# Altium footprint library Main Board.PcbLib: 34 footprints (part 2 of 3)
Each footprint in its own frame and in the unit in brackets; x right, y up, seen from the top. Pads: shape width x height; smd on the part's side, far side on the other; paste and mask are expansions set on the pad; w line width, h text height; cw(c..) or ccw(c..) is an arc to the next point about the centre after c.
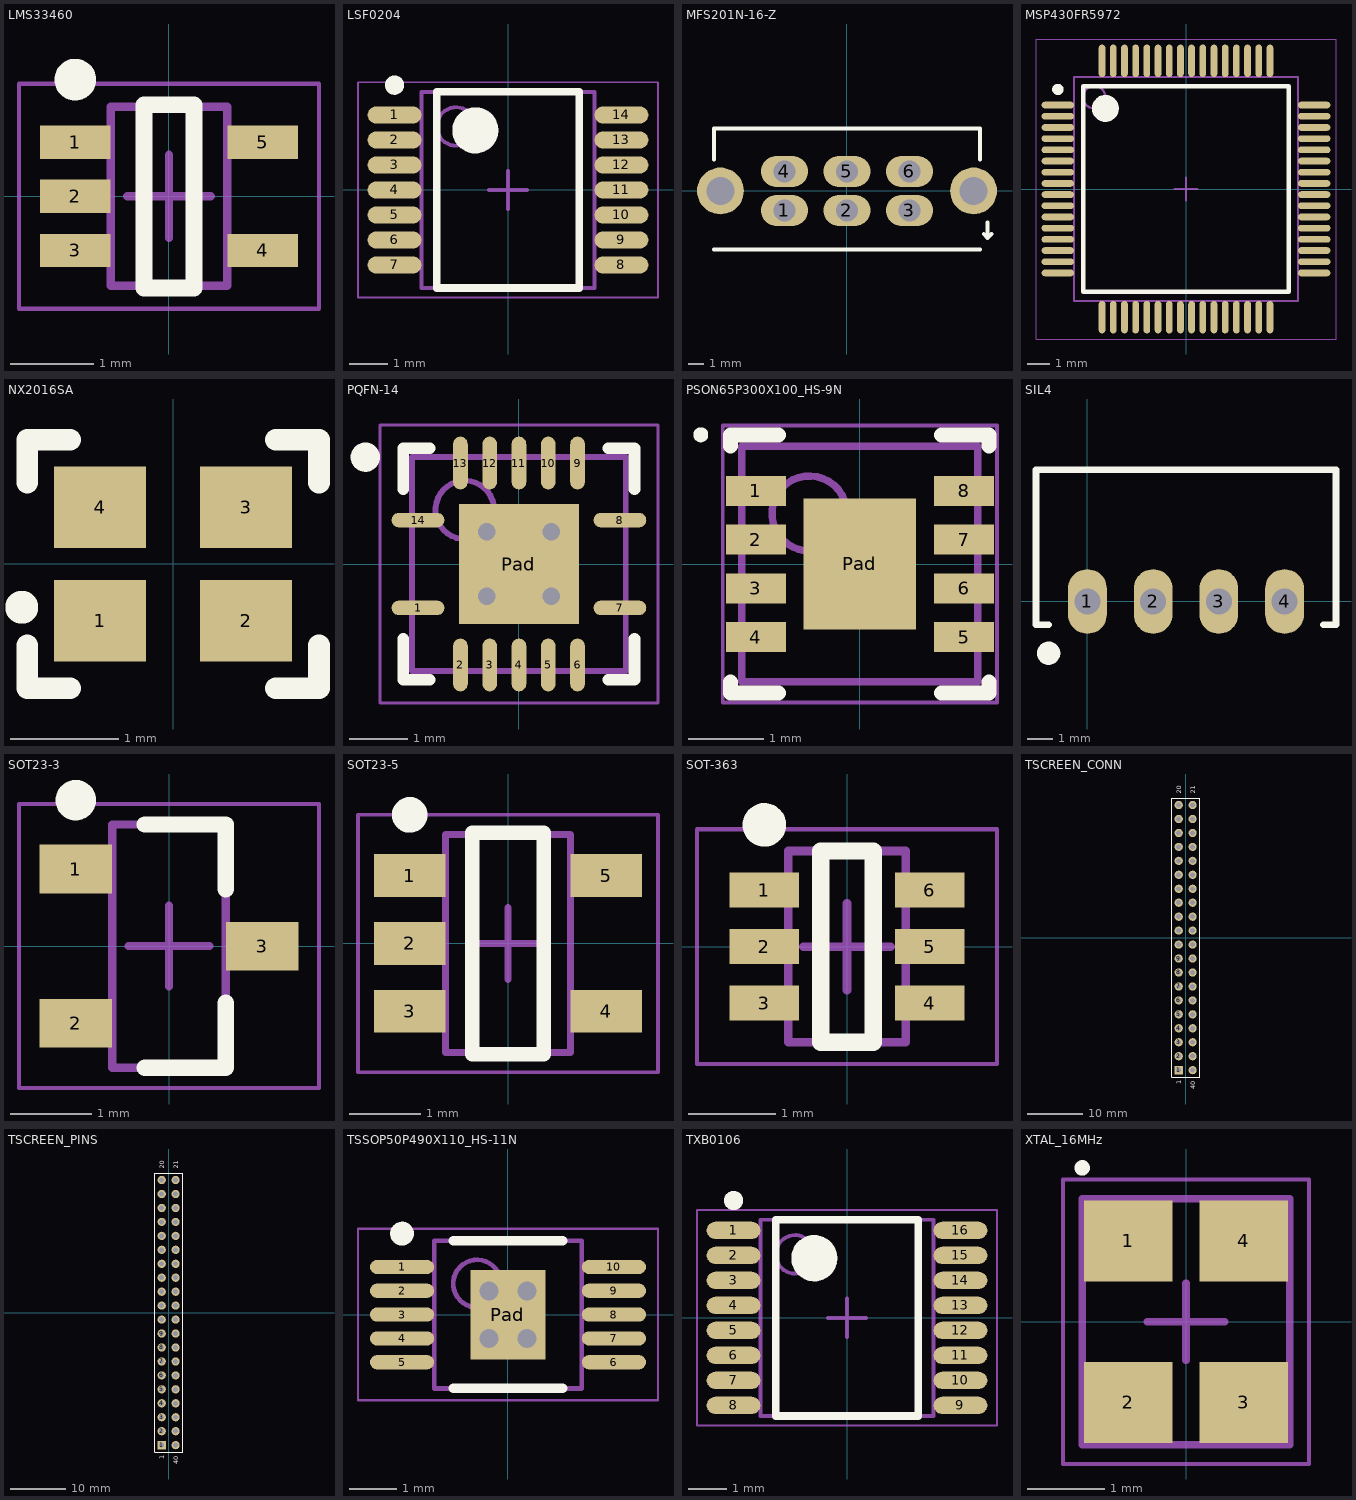
[diagram p1: the footprints below, top view; thin cyan lines are the x and y axes]

## LMS33460 [mm] "SOT23, 5-Leads, Body 2,00x2,10mm, Pitch 0,65mm, IPC Medium Density"
height 1.1
pads (5):
  rect 0.85x0.4 smd mask+0.06: 1(-1.125,0.65) 2(-1.125,0) 3(-1.125,-0.65) 4(1.125,-0.65) 5(1.125,0.65)
Top Overlay:
  circle w0.25: c-1.125,1.4 r0.125
  lines w0.2: -0.3,-1.1 -0.3,1.1 0.3,1.1 0.3,-1.1 -0.3,-1.1
Mechanical 13:
  lines w0.1: -0.7,-1.075 0.7,-1.075 0.7,1.075 -0.7,1.075 -0.7,-1.075
Mechanical 15:
  lines w0.05: -1.8,-1.35 1.8,-1.35 1.8,1.35 -1.8,1.35 -1.8,-1.35
  lines w0.1: -0.5,0 0.5,0 ; 0,-0.5 0,0.5
3D body: height 1.1, standoff 0, extent -0.7,-1.075 0.7,1.075

## LSF0204 [mm] "TSOP, 14-Leads, Body 5,00x4,40mm, Pitch 0,65mm, IPC Medium Density"
height 0.15
pads (14):
  oval 1.4x0.45 smd: 1(-2.95,1.95) 2(-2.95,1.3) 3(-2.95,0.65) 4(-2.95,0) 5(-2.95,-0.65) 6(-2.95,-1.3) 7(-2.95,-1.95) 8(2.95,-1.95) 9(2.95,-1.3) 10(2.95,-0.65) 11(2.95,0) 12(2.95,0.65) 13(2.95,1.3) 14(2.95,1.95)
Top Overlay:
  circle w0.6: c-0.85,1.55 r0.3
  circle w0.25: c-2.95,2.725 r0.125
  lines w0.2: -1.85,-2.55 1.85,-2.55 1.85,2.55 -1.85,2.55 -1.85,-2.55
Mechanical 13:
  circle w0.1: c-1.35,1.65 r0.5
  lines w0.1: -2.25,-2.55 2.25,-2.55 2.25,2.55 -2.25,2.55 -2.25,-2.55
Mechanical 15:
  lines w0.05: -3.9,-2.8 3.9,-2.8 3.9,2.8 -3.9,2.8 -3.9,-2.8
  lines w0.1: -0.5,0 0.5,0 ; 0,-0.5 0,0.5
3D body: height 0.15, standoff 0.1, extent -2.25,-2.55 2.25,2.55

## MFS201N-16-Z [mm] "DPDT Switch 30V 1A"
pads (8):
  oval 3x2 hole 1.4: 1(-4,-1.25) 2(0,-1.25) 3(4,-1.25) 4(-4,1.25) 5(0,1.25) 6(4,1.25)
  round 3 hole 1.8: ""(-8.1,0) ""(8.1,0)
Top Overlay:
  lines w0.25: -8.5,-3.75 8.5,-3.75 ; -8.5,2 -8.5,4 8.5,4 8.5,2 ; 8.75,-2.75 9,-3 ; 9,-2 9,-3 ; 9.25,-2.75 9,-3
3D body: height 7, standoff 3, extent -4,-10.85 4,-3.75
3D body: height 0, standoff -3, extent -4.5,-1.5 -3.5,-1
3D body: height 0, standoff -3, extent -0.5,-1.5 0.5,-1
3D body: height 0, standoff -3, extent 3.5,-1.5 4.5,-1
3D body: height 0, standoff -3, extent 3.5,1 4.5,1.5
3D body: height 0, standoff -3, extent -0.5,1 0.5,1.5
3D body: height 0, standoff -3, extent -4.5,1 -3.5,1.5
3D body: height 9, standoff 0, extent -8.4,-3.75 8.4,3.75
3D body: height 0, standoff -3, extent -8.35,-0.75 -7.85,0.75
3D body: height 0, standoff -3, extent 7.85,-0.75 8.35,0.75

## MSP430FR5972 [mm] "TSQFP, 64-Leads, Body 10,00x10,00mm, Pitch 0,50mm, IPC Medium Density"
height 1.6
pads (64):
  oval 1.45x0.3 smd: 1(-5.725,3.75) 2(-5.725,3.25) 3(-5.725,2.75) 4(-5.725,2.25) 5(-5.725,1.75) 6(-5.725,1.25) 7(-5.725,0.75) 8(-5.725,0.25) 9(-5.725,-0.25) 10(-5.725,-0.75) 11(-5.725,-1.25) 12(-5.725,-1.75) 13(-5.725,-2.25) 14(-5.725,-2.75) 15(-5.725,-3.25) 16(-5.725,-3.75) 33(5.725,-3.75) 34(5.725,-3.25) 35(5.725,-2.75) 36(5.725,-2.25) 37(5.725,-1.75) 38(5.725,-1.25) 39(5.725,-0.75) 40(5.725,-0.25) 41(5.725,0.25) 42(5.725,0.75) 43(5.725,1.25) 44(5.725,1.75) 45(5.725,2.25) 46(5.725,2.75) 47(5.725,3.25) 48(5.725,3.75)
  oval 0.3x1.45 smd: 17(-3.75,-5.725) 18(-3.25,-5.725) 19(-2.75,-5.725) 20(-2.25,-5.725) 21(-1.75,-5.725) 22(-1.25,-5.725) 23(-0.75,-5.725) 24(-0.25,-5.725) 25(0.25,-5.725) 26(0.75,-5.725) 27(1.25,-5.725) 28(1.75,-5.725) 29(2.25,-5.725) 30(2.75,-5.725) 31(3.25,-5.725) 32(3.75,-5.725) 49(3.75,5.725) 50(3.25,5.725) 51(2.75,5.725) 52(2.25,5.725) 53(1.75,5.725) 54(1.25,5.725) 55(0.75,5.725) 56(0.25,5.725) 57(-0.25,5.725) 58(-0.75,5.725) 59(-1.25,5.725) 60(-1.75,5.725) 61(-2.25,5.725) 62(-2.75,5.725) 63(-3.25,5.725) 64(-3.75,5.725)
Top Overlay:
  circle w0.6: c-3.6,3.6 r0.3
  circle w0.25: c-5.725,4.45 r0.125
  lines w0.2: -4.6,-4.6 4.6,-4.6 4.6,4.6 -4.6,4.6 -4.6,-4.6
Mechanical 13:
  circle w0.1: c-4.1,4.1 r0.5
  lines w0.1: -5,-5 5,-5 5,5 -5,5 -5,-5
Mechanical 15:
  lines w0.05: -6.7,-6.7 6.7,-6.7 6.7,6.7 -6.7,6.7 -6.7,-6.7
  lines w0.1: -0.5,0 0.5,0 ; 0,-0.5 0,0.5
3D body: height 1.6, standoff 0.25, extent -5,-5 5,5

## NX2016SA [mm]
height 0.5
pads (4):
  rect 0.85x0.75 smd: 1(-0.675,-0.525) 2(0.675,-0.525) 3(0.675,0.525) 4(-0.675,0.525)
Top Overlay:
  circle w0.254: c-1.4,-0.4 r0.025
  lines w0.2: -1.35,-0.75 -1.35,-1.15 -0.95,-1.15 ; -1.35,0.75 -1.35,1.15 -0.95,1.15 ; 0.95,-1.15 1.35,-1.15 1.35,-0.75 ; 0.95,1.15 1.35,1.15 1.35,0.75
3D body: height 0.3, standoff 0, extent -1,-0.8 1,0.8
3D body: height 0.5, standoff 0.3, extent -0.9,-0.7 0.9,0.7

## PQFN-14 [mm] "QFN, 14-Leads, Body 3,50x3,50mm, Pitch 0,50mm/1,50mm, Thermal Pad 2,05x2,05mm, IPC Medium Density"
height 1
pads (15):
  oval 0.9x0.25 smd mask+0.07: 1(-1.725,-0.75) 7(1.725,-0.75) 8(1.725,0.75) 14(-1.725,0.75)
  oval 0.25x0.9 smd mask+0.07: 2(-1,-1.725) 3(-0.5,-1.725) 4(0,-1.725) 5(0.5,-1.725) 6(1,-1.725) 9(1,1.725) 10(0.5,1.725) 11(0,1.725) 12(-0.5,1.725) 13(-1,1.725)
  rect 2.05x2.05 smd mask+0.07: Pad(0,0)
via 0.55,-0.55 diameter 0.5 hole 0.3
via -0.55,-0.55 diameter 0.5 hole 0.3
via 0.55,0.55 diameter 0.5 hole 0.3
via -0.55,0.55 diameter 0.5 hole 0.3
Top Overlay:
  circle w0.25: c-2.625,1.825 r0.125
  lines w0.2: -1.975,-1.275 -1.975,-1.975 -1.525,-1.975 ; -1.975,1.275 -1.975,1.975 -1.525,1.975 ; 1.525,-1.975 1.975,-1.975 1.975,-1.275 ; 1.525,1.975 1.975,1.975 1.975,1.275
Mechanical 13:
  circle w0.1: c-0.925,0.925 r0.5
  lines w0.1: -1.825,-1.825 1.825,-1.825 1.825,1.825 -1.825,1.825 -1.825,-1.825
Mechanical 15:
  lines w0.05: -2.375,-2.375 2.375,-2.375 2.375,2.375 -2.375,2.375 -2.375,-2.375
  lines w0.1: -0.5,0 0.5,0 ; 0,-0.5 0,0.5
3D body: height 1, standoff 0.05, extent -1.825,-1.825 1.825,1.825

## PSON65P300X100_HS-9N [mm] "PSON, 8-Leads, Body 3,00x3,00mm, Pitch 0,65mm, Thermal Pad 1,75x1,50mm, IPC Medium Density"
height 1
pads (9):
  rect 0.8x0.4 smd: 1(-1.39,0.975) 2(-1.39,0.325) 3(-1.39,-0.325) 4(-1.39,-0.975) 5(1.39,-0.975) 6(1.39,-0.325) 7(1.39,0.325) 8(1.39,0.975)
  rect 1.5x1.75 smd: Pad(0,0)
Top Overlay:
  circle w0.1: c-2.125,1.725 r0.05
  lines w0.2: -1.725,-1.575 -1.725,-1.725 -1.09,-1.725 ; -1.725,1.575 -1.725,1.725 -1.09,1.725 ; 1.09,-1.725 1.725,-1.725 1.725,-1.575 ; 1.09,1.725 1.725,1.725 1.725,1.575
Mechanical 13:
  circle w0.1: c-0.675,0.675 r0.5
  lines w0.1: -1.575,-1.575 1.575,-1.575 1.575,1.575 -1.575,1.575 -1.575,-1.575
Mechanical 15:
  lines w0.05: -1.83,-1.85 1.83,-1.85 1.83,1.85 -1.83,1.85 -1.83,-1.85
  lines w0.1: -0.5,0 0.5,0 ; 0,-0.5 0,0.5
3D body: height 1, standoff 0.05, extent -1.575,-1.575 1.575,1.575

## SIL4 [mm]
pads (4):
  oval 1.5x2.5 hole 1: 1(0,0) 2(2.54,0) 3(5.08,0) 4(7.62,0)
Top Overlay:
  circle w0.5: c-1.5,-2 r0.2
  lines w0.254: -1.49,-0.9 -1.99,-0.9 -1.99,5.1 9.61,5.1 9.61,-0.9 9.11,-0.9

## SOT23-3 [mm] "SOT23, 3-Leads, Body 2,90x2,30mm, Pitch 0,95mm, IPC Medium Density"
height 1.1
pads (3):
  rect 0.9x0.6 smd: 1(-1.15,0.95) 2(-1.15,-0.95) 3(1.15,0)
Top Overlay:
  circle w0.25: c-1.15,1.8 r0.125
  lines w0.2: -0.3,-1.5 0.7,-1.5 0.7,-0.7 ; -0.3,1.5 0.7,1.5 0.7,0.7
Mechanical 13:
  lines w0.1: -0.7,-1.5 -0.7,1.5 0.7,1.5 0.7,-1.5 -0.7,-1.5
Mechanical 15:
  lines w0.05: -1.85,-1.75 -1.85,1.75 1.85,1.75 1.85,-1.75 -1.85,-1.75
  lines w0.1: -0.5,0 0.5,0 ; 0,-0.5 0,0.5
3D body: height 1.1, standoff 0.1, extent -0.7,-1.5 0.7,1.5

## SOT23-5 [mm] "SOT23, 5-Leads, Body 2,90x2,80mm, Pitch 0,95mm, IPC Medium Density"
height 1.45
pads (5):
  rect 1x0.6 smd: 1(-1.375,0.95) 2(-1.375,0) 3(-1.375,-0.95) 4(1.375,-0.95) 5(1.375,0.95)
Top Overlay:
  circle w0.25: c-1.375,1.8 r0.125
  lines w0.2: -0.5,-1.55 0.5,-1.55 0.5,1.55 -0.5,1.55 -0.5,-1.55
Mechanical 13:
  lines w0.1: -0.875,-1.525 -0.875,1.525 0.875,1.525 0.875,-1.525 -0.875,-1.525
Mechanical 15:
  lines w0.05: -2.1,-1.8 -2.1,1.8 2.1,1.8 2.1,-1.8 -2.1,-1.8
  lines w0.1: -0.5,0 0.5,0 ; 0,-0.5 0,0.5
3D body: height 1.45, standoff 0.1, extent -0.875,-1.525 0.875,1.525

## SOT-363 [mm] "SOT23, 6-Leads, Body 2,00x2,10mm, Pitch 0,65mm, IPC Medium Density"
height 1.1
pads (6):
  rect 0.8x0.4 smd: 1(-0.95,0.65) 2(-0.95,0) 3(-0.95,-0.65) 4(0.95,-0.65) 5(0.95,0) 6(0.95,0.65)
Top Overlay:
  circle w0.25: c-0.95,1.4 r0.125
  lines w0.2: -0.3,-1.1 -0.3,1.1 0.3,1.1 0.3,-1.1 -0.3,-1.1
Mechanical 13:
  lines w0.1: -0.675,-1.1 0.675,-1.1 0.675,1.1 -0.675,1.1 -0.675,-1.1
Mechanical 15:
  lines w0.05: -1.725,-1.35 1.725,-1.35 1.725,1.35 -1.725,1.35 -1.725,-1.35
  lines w0.1: -0.5,0 0.5,0 ; 0,-0.5 0,0.5
3D body: height 1.1, standoff 0.1, extent -0.675,-1.1 0.675,1.1

## TSCREEN_CONN [mm]
height 8.5
pads (40):
  rect 1.5x1.5 hole 0.9: 1(-1.27,-24.13)
  round 1.5 hole 0.9: 2(-1.27,-21.59) 3(-1.27,-19.05) 4(-1.27,-16.51) 5(-1.27,-13.97) 6(-1.27,-11.43) 7(-1.27,-8.89) 8(-1.27,-6.35) 9(-1.27,-3.81) 10(-1.27,-1.27) 11(-1.27,1.27) 12(-1.27,3.81) 13(-1.27,6.35) 14(-1.27,8.89) 15(-1.27,11.43) 16(-1.27,13.97) 17(-1.27,16.51) 18(-1.27,19.05) 19(-1.27,21.59) 20(-1.27,24.13) 21(1.27,24.13) 22(1.27,21.59) 23(1.27,19.05) 24(1.27,16.51) 25(1.27,13.97) 26(1.27,11.43) 27(1.27,8.89) 28(1.27,6.35) 29(1.27,3.81) 30(1.27,1.27) 31(1.27,-1.27) 32(1.27,-3.81) 33(1.27,-6.35) 34(1.27,-8.89) 35(1.27,-11.43) 36(1.27,-13.97) 37(1.27,-16.51) 38(1.27,-19.05) 39(1.27,-21.59) 40(1.27,-24.13)
Top Overlay:
  lines w0.2: -2.54,-25.4 -2.54,25.4 2.54,25.4 2.54,-25.4 -2.54,-25.4
  text "40" at 1.778,-27.559 h0.89
  text "1" at -0.762,-26.67 h0.89
  text "20" at -0.762,26.162 h0.89
  text "21" at 1.778,26.162 h0.89
3D body: height 8.5, standoff 0.5, extent -2.54,-25.4 2.54,-22.86
3D body: height 0.5, standoff 0, extent -2.54,-25.4 -1.905,-22.86
3D body: height 0.5, standoff 0, extent 1.905,-25.4 2.54,-22.86
3D body: height 1, standoff 0.5, extent -1.905,-24.765 -0.635,-23.495
3D body: height 1, standoff 0.5, extent 0.635,-24.765 1.905,-23.495
3D body: height 0.5, standoff -3, extent -1.524,-24.384 -1.016,-23.876
3D body: height 0.5, standoff -3, extent 1.016,-24.384 1.524,-23.876
3D body: height 0.5, standoff -3, extent 1.016,-21.844 1.524,-21.336
3D body: height 0.5, standoff -3, extent -1.524,-21.844 -1.016,-21.336
3D body: height 1, standoff 0.5, extent 0.635,-22.225 1.905,-20.955
3D body: height 1, standoff 0.5, extent -1.905,-22.225 -0.635,-20.955
3D body: height 0.5, standoff 0, extent 1.905,-22.86 2.54,-20.32
3D body: height 0.5, standoff 0, extent -2.54,-22.86 -1.905,-20.32
3D body: height 8.5, standoff 0.5, extent -2.54,-22.86 2.54,-20.32
3D body: height 0.5, standoff -3, extent 1.016,-19.304 1.524,-18.796
3D body: height 0.5, standoff -3, extent -1.524,-19.304 -1.016,-18.796
3D body: height 1, standoff 0.5, extent 0.635,-19.685 1.905,-18.415
3D body: height 1, standoff 0.5, extent -1.905,-19.685 -0.635,-18.415
3D body: height 0.5, standoff 0, extent 1.905,-20.32 2.54,-17.78
3D body: height 0.5, standoff 0, extent -2.54,-20.32 -1.905,-17.78
3D body: height 8.5, standoff 0.5, extent -2.54,-20.32 2.54,-17.78
3D body: height 0.5, standoff -3, extent 1.016,-16.764 1.524,-16.256
3D body: height 0.5, standoff -3, extent -1.524,-16.764 -1.016,-16.256
3D body: height 1, standoff 0.5, extent 0.635,-17.145 1.905,-15.875
3D body: height 1, standoff 0.5, extent -1.905,-17.145 -0.635,-15.875
3D body: height 0.5, standoff 0, extent 1.905,-17.78 2.54,-15.24
3D body: height 0.5, standoff 0, extent -2.54,-17.78 -1.905,-15.24
3D body: height 8.5, standoff 0.5, extent -2.54,-17.78 2.54,-15.24
3D body: height 0.5, standoff -3, extent 1.016,-14.224 1.524,-13.716
3D body: height 0.5, standoff -3, extent -1.524,-14.224 -1.016,-13.716
3D body: height 1, standoff 0.5, extent 0.635,-14.605 1.905,-13.335
3D body: height 1, standoff 0.5, extent -1.905,-14.605 -0.635,-13.335
3D body: height 0.5, standoff 0, extent 1.905,-15.24 2.54,-12.7
3D body: height 0.5, standoff 0, extent -2.54,-15.24 -1.905,-12.7
3D body: height 8.5, standoff 0.5, extent -2.54,-15.24 2.54,-12.7
3D body: height 0.5, standoff -3, extent 1.016,-11.684 1.524,-11.176
3D body: height 0.5, standoff -3, extent -1.524,-11.684 -1.016,-11.176
3D body: height 1, standoff 0.5, extent 0.635,-12.065 1.905,-10.795
3D body: height 1, standoff 0.5, extent -1.905,-12.065 -0.635,-10.795
3D body: height 0.5, standoff 0, extent 1.905,-12.7 2.54,-10.16
3D body: height 0.5, standoff 0, extent -2.54,-12.7 -1.905,-10.16
3D body: height 8.5, standoff 0.5, extent -2.54,-12.7 2.54,-10.16
3D body: height 0.5, standoff -3, extent 1.016,-9.144 1.524,-8.636
3D body: height 0.5, standoff -3, extent -1.524,-9.144 -1.016,-8.636
3D body: height 1, standoff 0.5, extent 0.635,-9.525 1.905,-8.255
3D body: height 1, standoff 0.5, extent -1.905,-9.525 -0.635,-8.255
3D body: height 0.5, standoff 0, extent 1.905,-10.16 2.54,-7.62
3D body: height 0.5, standoff 0, extent -2.54,-10.16 -1.905,-7.62
3D body: height 8.5, standoff 0.5, extent -2.54,-10.16 2.54,-7.62
3D body: height 0.5, standoff -3, extent 1.016,-6.604 1.524,-6.096
3D body: height 0.5, standoff -3, extent -1.524,-6.604 -1.016,-6.096
3D body: height 1, standoff 0.5, extent 0.635,-6.985 1.905,-5.715
3D body: height 1, standoff 0.5, extent -1.905,-6.985 -0.635,-5.715
3D body: height 0.5, standoff 0, extent 1.905,-7.62 2.54,-5.08
3D body: height 0.5, standoff 0, extent -2.54,-7.62 -1.905,-5.08
3D body: height 8.5, standoff 0.5, extent -2.54,-7.62 2.54,-5.08
3D body: height 0.5, standoff -3, extent 1.016,-4.064 1.524,-3.556
3D body: height 0.5, standoff -3, extent -1.524,-4.064 -1.016,-3.556
3D body: height 1, standoff 0.5, extent 0.635,-4.445 1.905,-3.175
3D body: height 1, standoff 0.5, extent -1.905,-4.445 -0.635,-3.175
3D body: height 0.5, standoff 0, extent 1.905,-5.08 2.54,-2.54
3D body: height 0.5, standoff 0, extent -2.54,-5.08 -1.905,-2.54
3D body: height 8.5, standoff 0.5, extent -2.54,-5.08 2.54,-2.54
3D body: height 0.5, standoff -3, extent 1.016,-1.524 1.524,-1.016
3D body: height 0.5, standoff -3, extent -1.524,-1.524 -1.016,-1.016
3D body: height 1, standoff 0.5, extent 0.635,-1.905 1.905,-0.635
3D body: height 1, standoff 0.5, extent -1.905,-1.905 -0.635,-0.635
3D body: height 0.5, standoff 0, extent 1.905,-2.54 2.54,0
3D body: height 0.5, standoff 0, extent -2.54,-2.54 -1.905,0
3D body: height 8.5, standoff 0.5, extent -2.54,-2.54 2.54,0
3D body: height 0.5, standoff -3, extent 1.016,1.016 1.524,1.524
3D body: height 0.5, standoff -3, extent -1.524,1.016 -1.016,1.524
3D body: height 1, standoff 0.5, extent 0.635,0.635 1.905,1.905
3D body: height 1, standoff 0.5, extent -1.905,0.635 -0.635,1.905
3D body: height 0.5, standoff 0, extent 1.905,0 2.54,2.54
3D body: height 0.5, standoff 0, extent -2.54,0 -1.905,2.54
3D body: height 8.5, standoff 0.5, extent -2.54,0 2.54,2.54
3D body: height 0.5, standoff -3, extent 1.016,3.556 1.524,4.064
3D body: height 0.5, standoff -3, extent -1.524,3.556 -1.016,4.064
3D body: height 1, standoff 0.5, extent 0.635,3.175 1.905,4.445
3D body: height 1, standoff 0.5, extent -1.905,3.175 -0.635,4.445
3D body: height 0.5, standoff 0, extent 1.905,2.54 2.54,5.08
3D body: height 0.5, standoff 0, extent -2.54,2.54 -1.905,5.08
3D body: height 8.5, standoff 0.5, extent -2.54,2.54 2.54,5.08
3D body: height 0.5, standoff -3, extent 1.016,6.096 1.524,6.604
3D body: height 0.5, standoff -3, extent -1.524,6.096 -1.016,6.604
3D body: height 1, standoff 0.5, extent 0.635,5.715 1.905,6.985
3D body: height 1, standoff 0.5, extent -1.905,5.715 -0.635,6.985
3D body: height 0.5, standoff 0, extent 1.905,5.08 2.54,7.62
3D body: height 0.5, standoff 0, extent -2.54,5.08 -1.905,7.62
3D body: height 8.5, standoff 0.5, extent -2.54,5.08 2.54,7.62
3D body: height 0.5, standoff -3, extent 1.016,8.636 1.524,9.144
3D body: height 0.5, standoff -3, extent -1.524,8.636 -1.016,9.144
3D body: height 1, standoff 0.5, extent 0.635,8.255 1.905,9.525
3D body: height 1, standoff 0.5, extent -1.905,8.255 -0.635,9.525
3D body: height 0.5, standoff 0, extent 1.905,7.62 2.54,10.16
3D body: height 0.5, standoff 0, extent -2.54,7.62 -1.905,10.16
3D body: height 8.5, standoff 0.5, extent -2.54,7.62 2.54,10.16
3D body: height 0.5, standoff -3, extent 1.016,11.176 1.524,11.684
3D body: height 0.5, standoff -3, extent -1.524,11.176 -1.016,11.684
3D body: height 1, standoff 0.5, extent 0.635,10.795 1.905,12.065
3D body: height 1, standoff 0.5, extent -1.905,10.795 -0.635,12.065
3D body: height 0.5, standoff 0, extent 1.905,10.16 2.54,12.7
3D body: height 0.5, standoff 0, extent -2.54,10.16 -1.905,12.7
3D body: height 8.5, standoff 0.5, extent -2.54,10.16 2.54,12.7
3D body: height 0.5, standoff -3, extent 1.016,13.716 1.524,14.224
3D body: height 0.5, standoff -3, extent -1.524,13.716 -1.016,14.224
3D body: height 1, standoff 0.5, extent 0.635,13.335 1.905,14.605
3D body: height 1, standoff 0.5, extent -1.905,13.335 -0.635,14.605
3D body: height 0.5, standoff 0, extent 1.905,12.7 2.54,15.24
3D body: height 0.5, standoff 0, extent -2.54,12.7 -1.905,15.24
3D body: height 8.5, standoff 0.5, extent -2.54,12.7 2.54,15.24
3D body: height 0.5, standoff -3, extent 1.016,16.256 1.524,16.764
3D body: height 0.5, standoff -3, extent -1.524,16.256 -1.016,16.764
3D body: height 1, standoff 0.5, extent 0.635,15.875 1.905,17.145
3D body: height 1, standoff 0.5, extent -1.905,15.875 -0.635,17.145
3D body: height 0.5, standoff 0, extent 1.905,15.24 2.54,17.78
3D body: height 0.5, standoff 0, extent -2.54,15.24 -1.905,17.78
3D body: height 8.5, standoff 0.5, extent -2.54,15.24 2.54,17.78
3D body: height 0.5, standoff -3, extent 1.016,18.796 1.524,19.304
3D body: height 0.5, standoff -3, extent -1.524,18.796 -1.016,19.304
3D body: height 1, standoff 0.5, extent 0.635,18.415 1.905,19.685
3D body: height 1, standoff 0.5, extent -1.905,18.415 -0.635,19.685
3D body: height 0.5, standoff 0, extent 1.905,17.78 2.54,20.32
3D body: height 0.5, standoff 0, extent -2.54,17.78 -1.905,20.32
3D body: height 8.5, standoff 0.5, extent -2.54,17.78 2.54,20.32
3D body: height 0.5, standoff -3, extent 1.016,21.336 1.524,21.844
3D body: height 0.5, standoff -3, extent -1.524,21.336 -1.016,21.844
3D body: height 1, standoff 0.5, extent 0.635,20.955 1.905,22.225
3D body: height 1, standoff 0.5, extent -1.905,20.955 -0.635,22.225
3D body: height 0.5, standoff 0, extent 1.905,20.32 2.54,22.86
3D body: height 0.5, standoff 0, extent -2.54,20.32 -1.905,22.86
3D body: height 8.5, standoff 0.5, extent -2.54,20.32 2.54,22.86
3D body: height 0.5, standoff -3, extent 1.016,23.876 1.524,24.384
3D body: height 0.5, standoff -3, extent -1.524,23.876 -1.016,24.384
3D body: height 1, standoff 0.5, extent 0.635,23.495 1.905,24.765
3D body: height 1, standoff 0.5, extent -1.905,23.495 -0.635,24.765
3D body: height 0.5, standoff 0, extent 1.905,22.86 2.54,25.4
3D body: height 0.5, standoff 0, extent -2.54,22.86 -1.905,25.4
3D body: height 8.5, standoff 0.5, extent -2.54,22.86 2.54,25.4

## TSCREEN_PINS [mm]
pads (40):
  rect 1.5x1.5 hole 0.9: 1(-1.27,-24.13)
  round 1.5 hole 0.9: 2(-1.27,-21.59) 3(-1.27,-19.05) 4(-1.27,-16.51) 5(-1.27,-13.97) 6(-1.27,-11.43) 7(-1.27,-8.89) 8(-1.27,-6.35) 9(-1.27,-3.81) 10(-1.27,-1.27) 11(-1.27,1.27) 12(-1.27,3.81) 13(-1.27,6.35) 14(-1.27,8.89) 15(-1.27,11.43) 16(-1.27,13.97) 17(-1.27,16.51) 18(-1.27,19.05) 19(-1.27,21.59) 20(-1.27,24.13) 21(1.27,24.13) 22(1.27,21.59) 23(1.27,19.05) 24(1.27,16.51) 25(1.27,13.97) 26(1.27,11.43) 27(1.27,8.89) 28(1.27,6.35) 29(1.27,3.81) 30(1.27,1.27) 31(1.27,-1.27) 32(1.27,-3.81) 33(1.27,-6.35) 34(1.27,-8.89) 35(1.27,-11.43) 36(1.27,-13.97) 37(1.27,-16.51) 38(1.27,-19.05) 39(1.27,-21.59) 40(1.27,-24.13)
Top Overlay:
  lines w0.2: -2.54,-25.4 2.54,-25.4 2.54,25.4 -2.54,25.4 -2.54,-25.4
  text "21" at 1.778,26.162 h0.89
  text "20" at -0.762,26.162 h0.89
  text "1" at -0.762,-26.67 h0.89
  text "40" at 1.778,-27.559 h0.89
3D body: height -2.11, standoff -4.14, extent -2.54,-25.4 2.54,-22.86
3D body: height -1.6, standoff -2.11, extent 1.905,-25.4 2.54,-22.86
3D body: height -1.6, standoff -2.11, extent -2.54,-25.4 -1.905,-22.86
3D body: height 1.4, standoff -10.16, extent 1.016,-24.384 1.524,-23.876
3D body: height 1.4, standoff -10.16, extent -1.524,-24.384 -1.016,-23.876
3D body: height 1.4, standoff -10.16, extent -1.524,-21.844 -1.016,-21.336
3D body: height 1.4, standoff -10.16, extent 1.016,-21.844 1.524,-21.336
3D body: height -1.6, standoff -2.11, extent -2.54,-22.86 -1.905,-20.32
3D body: height -1.6, standoff -2.11, extent 1.905,-22.86 2.54,-20.32
3D body: height -2.11, standoff -4.14, extent -2.54,-22.86 2.54,-20.32
3D body: height 1.4, standoff -10.16, extent -1.524,-19.304 -1.016,-18.796
3D body: height 1.4, standoff -10.16, extent 1.016,-19.304 1.524,-18.796
3D body: height -1.6, standoff -2.11, extent -2.54,-20.32 -1.905,-17.78
3D body: height -1.6, standoff -2.11, extent 1.905,-20.32 2.54,-17.78
3D body: height -2.11, standoff -4.14, extent -2.54,-20.32 2.54,-17.78
3D body: height 1.4, standoff -10.16, extent -1.524,-16.764 -1.016,-16.256
3D body: height 1.4, standoff -10.16, extent 1.016,-16.764 1.524,-16.256
3D body: height -1.6, standoff -2.11, extent -2.54,-17.78 -1.905,-15.24
3D body: height -1.6, standoff -2.11, extent 1.905,-17.78 2.54,-15.24
3D body: height -2.11, standoff -4.14, extent -2.54,-17.78 2.54,-15.24
3D body: height 1.4, standoff -10.16, extent -1.524,-14.224 -1.016,-13.716
3D body: height 1.4, standoff -10.16, extent 1.016,-14.224 1.524,-13.716
3D body: height -1.6, standoff -2.11, extent -2.54,-15.24 -1.905,-12.7
3D body: height -1.6, standoff -2.11, extent 1.905,-15.24 2.54,-12.7
3D body: height -2.11, standoff -4.14, extent -2.54,-15.24 2.54,-12.7
3D body: height 1.4, standoff -10.16, extent -1.524,-11.684 -1.016,-11.176
3D body: height 1.4, standoff -10.16, extent 1.016,-11.684 1.524,-11.176
3D body: height -1.6, standoff -2.11, extent -2.54,-12.7 -1.905,-10.16
3D body: height -1.6, standoff -2.11, extent 1.905,-12.7 2.54,-10.16
3D body: height -2.11, standoff -4.14, extent -2.54,-12.7 2.54,-10.16
3D body: height 1.4, standoff -10.16, extent -1.524,-9.144 -1.016,-8.636
3D body: height 1.4, standoff -10.16, extent 1.016,-9.144 1.524,-8.636
3D body: height -1.6, standoff -2.11, extent -2.54,-10.16 -1.905,-7.62
3D body: height -1.6, standoff -2.11, extent 1.905,-10.16 2.54,-7.62
3D body: height -2.11, standoff -4.14, extent -2.54,-10.16 2.54,-7.62
3D body: height 1.4, standoff -10.16, extent -1.524,-6.604 -1.016,-6.096
3D body: height 1.4, standoff -10.16, extent 1.016,-6.604 1.524,-6.096
3D body: height -1.6, standoff -2.11, extent -2.54,-7.62 -1.905,-5.08
3D body: height -1.6, standoff -2.11, extent 1.905,-7.62 2.54,-5.08
3D body: height -2.11, standoff -4.14, extent -2.54,-7.62 2.54,-5.08
3D body: height 1.4, standoff -10.16, extent -1.524,-4.064 -1.016,-3.556
3D body: height 1.4, standoff -10.16, extent 1.016,-4.064 1.524,-3.556
3D body: height -1.6, standoff -2.11, extent -2.54,-5.08 -1.905,-2.54
3D body: height -1.6, standoff -2.11, extent 1.905,-5.08 2.54,-2.54
3D body: height -2.11, standoff -4.14, extent -2.54,-5.08 2.54,-2.54
3D body: height 1.4, standoff -10.16, extent -1.524,-1.524 -1.016,-1.016
3D body: height 1.4, standoff -10.16, extent 1.016,-1.524 1.524,-1.016
3D body: height -1.6, standoff -2.11, extent -2.54,-2.54 -1.905,0
3D body: height -1.6, standoff -2.11, extent 1.905,-2.54 2.54,0
3D body: height -2.11, standoff -4.14, extent -2.54,-2.54 2.54,0
3D body: height 1.4, standoff -10.16, extent -1.524,1.016 -1.016,1.524
3D body: height 1.4, standoff -10.16, extent 1.016,1.016 1.524,1.524
3D body: height -1.6, standoff -2.11, extent -2.54,0 -1.905,2.54
3D body: height -1.6, standoff -2.11, extent 1.905,0 2.54,2.54
3D body: height -2.11, standoff -4.14, extent -2.54,0 2.54,2.54
3D body: height 1.4, standoff -10.16, extent -1.524,3.556 -1.016,4.064
3D body: height 1.4, standoff -10.16, extent 1.016,3.556 1.524,4.064
3D body: height -1.6, standoff -2.11, extent -2.54,2.54 -1.905,5.08
3D body: height -1.6, standoff -2.11, extent 1.905,2.54 2.54,5.08
3D body: height -2.11, standoff -4.14, extent -2.54,2.54 2.54,5.08
3D body: height 1.4, standoff -10.16, extent -1.524,6.096 -1.016,6.604
3D body: height 1.4, standoff -10.16, extent 1.016,6.096 1.524,6.604
3D body: height -1.6, standoff -2.11, extent -2.54,5.08 -1.905,7.62
3D body: height -1.6, standoff -2.11, extent 1.905,5.08 2.54,7.62
3D body: height -2.11, standoff -4.14, extent -2.54,5.08 2.54,7.62
3D body: height 1.4, standoff -10.16, extent -1.524,8.636 -1.016,9.144
3D body: height 1.4, standoff -10.16, extent 1.016,8.636 1.524,9.144
3D body: height -1.6, standoff -2.11, extent -2.54,7.62 -1.905,10.16
3D body: height -1.6, standoff -2.11, extent 1.905,7.62 2.54,10.16
3D body: height -2.11, standoff -4.14, extent -2.54,7.62 2.54,10.16
3D body: height 1.4, standoff -10.16, extent -1.524,11.176 -1.016,11.684
3D body: height 1.4, standoff -10.16, extent 1.016,11.176 1.524,11.684
3D body: height -1.6, standoff -2.11, extent -2.54,10.16 -1.905,12.7
3D body: height -1.6, standoff -2.11, extent 1.905,10.16 2.54,12.7
3D body: height -2.11, standoff -4.14, extent -2.54,10.16 2.54,12.7
3D body: height 1.4, standoff -10.16, extent -1.524,13.716 -1.016,14.224
3D body: height 1.4, standoff -10.16, extent 1.016,13.716 1.524,14.224
3D body: height -1.6, standoff -2.11, extent -2.54,12.7 -1.905,15.24
3D body: height -1.6, standoff -2.11, extent 1.905,12.7 2.54,15.24
3D body: height -2.11, standoff -4.14, extent -2.54,12.7 2.54,15.24
3D body: height 1.4, standoff -10.16, extent -1.524,16.256 -1.016,16.764
3D body: height 1.4, standoff -10.16, extent 1.016,16.256 1.524,16.764
3D body: height -1.6, standoff -2.11, extent -2.54,15.24 -1.905,17.78
3D body: height -1.6, standoff -2.11, extent 1.905,15.24 2.54,17.78
3D body: height -2.11, standoff -4.14, extent -2.54,15.24 2.54,17.78
3D body: height 1.4, standoff -10.16, extent -1.524,18.796 -1.016,19.304
3D body: height 1.4, standoff -10.16, extent 1.016,18.796 1.524,19.304
3D body: height -1.6, standoff -2.11, extent -2.54,17.78 -1.905,20.32
3D body: height -1.6, standoff -2.11, extent 1.905,17.78 2.54,20.32
3D body: height -2.11, standoff -4.14, extent -2.54,17.78 2.54,20.32
3D body: height 1.4, standoff -10.16, extent -1.524,21.336 -1.016,21.844
3D body: height 1.4, standoff -10.16, extent 1.016,21.336 1.524,21.844
3D body: height -1.6, standoff -2.11, extent -2.54,20.32 -1.905,22.86
3D body: height -1.6, standoff -2.11, extent 1.905,20.32 2.54,22.86
3D body: height -2.11, standoff -4.14, extent -2.54,20.32 2.54,22.86
3D body: height 1.4, standoff -10.16, extent -1.524,23.876 -1.016,24.384
3D body: height 1.4, standoff -10.16, extent 1.016,23.876 1.524,24.384
3D body: height -1.6, standoff -2.11, extent -2.54,22.86 -1.905,25.4
3D body: height -1.6, standoff -2.11, extent 1.905,22.86 2.54,25.4
3D body: height -2.11, standoff -4.14, extent -2.54,22.86 2.54,25.4

## TSSOP50P490X110_HS-11N [mm] "TSSOP, 10-Leads, Body 3,00x3,00mm, Pitch 0,50mm, Thermal Pad 1,88x1,57mm, IPC Medium Density"
height 1.1
pads (11):
  oval 1.35x0.3 smd: 1(-2.225,1) 2(-2.225,0.5) 3(-2.225,0) 4(-2.225,-0.5) 5(-2.225,-1) 6(2.225,-1) 7(2.225,-0.5) 8(2.225,0) 9(2.225,0.5) 10(2.225,1)
  rect 1.57x1.88 smd: Pad(0,0)
via 0.4,0.5 diameter 0.6 hole 0.4
via -0.4,0.5 diameter 0.6 hole 0.4
via -0.4,-0.5 diameter 0.6 hole 0.4
via 0.4,-0.5 diameter 0.6 hole 0.4
Top Overlay:
  circle w0.25: c-2.225,1.7 r0.125
  lines w0.2: -1.15,-1.55 1.15,-1.55 ; -1.15,1.55 1.15,1.55
Mechanical 13:
  circle w0.1: c-0.65,0.65 r0.5
  lines w0.1: -1.55,-1.55 -1.55,1.55 1.55,1.55 1.55,-1.55 -1.55,-1.55
Mechanical 15:
  lines w0.05: -3.15,-1.8 -3.15,1.8 3.15,1.8 3.15,-1.8 -3.15,-1.8
  lines w0.1: -0.5,0 0.5,0 ; 0,-0.5 0,0.5
3D body: height 1.1, standoff 0.05, extent -1.55,-1.55 1.55,1.55

## TXB0106 [mm] "TSOP, 16-Leads, Body 5,00x4,40mm, Pitch 0,65mm, IPC Medium Density"
height 1.2
pads (16):
  oval 1.4x0.45 smd: 1(-2.95,2.275) 2(-2.95,1.625) 3(-2.95,0.975) 4(-2.95,0.325) 5(-2.95,-0.325) 6(-2.95,-0.975) 7(-2.95,-1.625) 8(-2.95,-2.275) 9(2.95,-2.275) 10(2.95,-1.625) 11(2.95,-0.975) 12(2.95,-0.325) 13(2.95,0.325) 14(2.95,0.975) 15(2.95,1.625) 16(2.95,2.275)
Top Overlay:
  circle w0.25: c-2.95,3.05 r0.125
  circle w0.6: c-0.85,1.55 r0.3
  lines w0.2: -1.85,-2.55 -1.85,2.55 1.85,2.55 1.85,-2.55 -1.85,-2.55
Mechanical 13:
  circle w0.1: c-1.35,1.65 r0.5
  lines w0.1: -2.25,-2.55 -2.25,2.55 2.25,2.55 2.25,-2.55 -2.25,-2.55
Mechanical 15:
  lines w0.05: -3.9,-2.8 -3.9,2.8 3.9,2.8 3.9,-2.8 -3.9,-2.8
  lines w0.1: -0.5,0 0.5,0 ; 0,-0.5 0,0.5
3D body: height 1.2, standoff 0.05, extent -2.25,-2.55 2.25,2.55

## XTAL_16MHz [mm] "DFN, 4-Leads, Body 3,10x2,50mm, Pitch 1,50mm, IPC Medium Density"
height 0.75
pads (4):
  rect 1.15x1.05 smd: 1(-0.75,1.05) 2(-0.75,-1.05) 3(0.75,-1.05) 4(0.75,1.05)
Top Overlay:
  circle w0.1: c-1.35,2 r0.05
Mechanical 13:
  lines w0.1: -1.35,-1.6 1.35,-1.6 1.35,1.6 -1.35,1.6 -1.35,-1.6
Mechanical 15:
  lines w0.05: -1.6,-1.85 1.6,-1.85 1.6,1.85 -1.6,1.85 -1.6,-1.85
  lines w0.1: -0.5,0 0.5,0 ; 0,-0.5 0,0.5
3D body: height 0.75, standoff 0, extent -1.35,-1.6 1.35,1.6